# Altium schematic symbol library Specialized.SchLib: 1 symbol
Pins are listed as number, name and electrical type; pins without a type are passive.

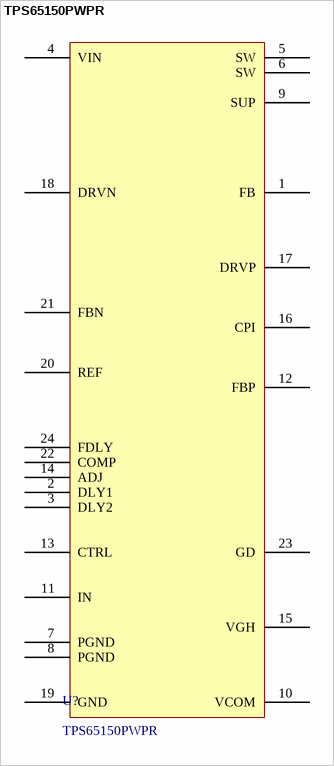
[diagram p0: symbol TPS65150PWPR]

## TPS65150PWPR
designator U?
LCD Drivers Compact LCD Bias Supply IC A 595-TPS651 A 595-TPS65150PWP; Manufacturer: Texas Instruments; Voltage Input Maximum: 3.3 V; Voltage Input Minimum: 2.5 V; Voltage Output: 2.5 V - 3.3 V; ComponentLink1Description: Datasheet; ComponentLink1URL: https://www.lcsc.com/datasheet/C140349.pdf; LCSC Part #: C140349; Manufacturer Part Number: TPS65150PWPR; Mount: SMD/SMT; Operating Temperature Max: + 85 C; Operating Temperature Min: - 40 C; Package / Case: HTSSOP-24; Packaging: Tape and Reel; Supplier 1: Mouser; Supplier 1 Part Number: 595-TPS65150PWPR; Supplier 1 URL: https://www.mouser.com/ProductDetail/Texas-Instruments/TPS65150PWPR?qs=Gse6rAGbi795609lNquRNw%3D%3D; Supplier 2: Digi-Key; Supplier 2 Part Number: 296-21166-2-ND; Supplier 2 URL: https://www.digikey.com/en/products/detail/texas-instruments/TPS65150PWPR/1216772; Supplier 3: thegioiic; Supplier 3 Part Number: N/A; Supplier 3 URL: N/A; Value: TPS65150PWPR
footprint TPS65150PWPR (TSOP, 24-Leads, Body 7.80x4.40mm, Pitch 0.65mm, Thermal Pad 5.16x2.40mm, IPC Medium Density)
pins: 1 FB, 2 DLY1, 3 DLY2, 4 VIN, 5 SW, 6 SW, 7 PGND, 8 PGND, 9 SUP, 10 VCOM, 11 IN, 12 FBP, 13 CTRL, 14 ADJ, 15 VGH, 16 CPI, 17 DRVP, 18 DRVN, 19 GND, 20 REF, 21 FBN, 22 COMP, 23 GD, 24 FDLY